# Altium integrated library Altium_SMD_Resister.IntLib: 490 symbols (part 4 of 8)
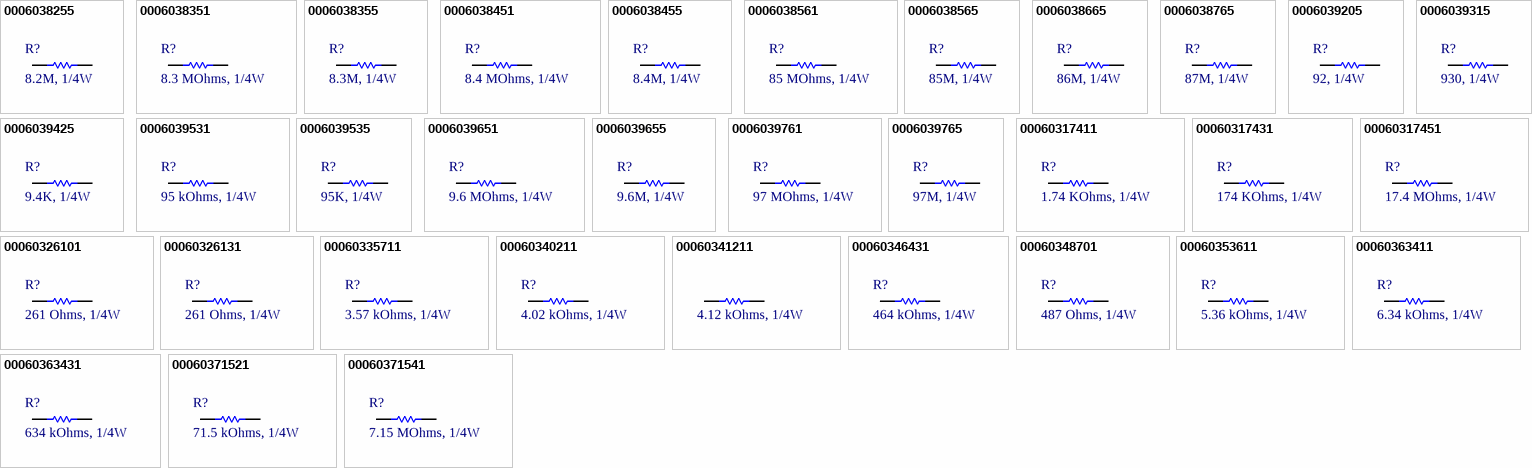
[diagram p15: symbols 0006038255 to 00060371541]

## 0006039531
designator R?, comment 95 kOhms, 1/4W
RES, 95 kOhms, size 0603, 1%; Resistance tolerance: +/-1%; Resistance: 95 k; Supply 1 Name: Mouser; Supply 2 Name: Digi-Key; Size: 0603; Mounting Technology: SMT; Rated Power: 1/4 W; ComponentLink1Description: Datasheet link; ComponentLink1URL: *; Supply 1 SN: *; Supply 1 URL: *; Supply 2 SN: *; Supply 2 URL: *; Supply 3 Name: *; Supply 3 SN: *
footprint resistor_0603
pins: 1, 2

## 0006039535
designator R?, comment 95K, 1/4W
RES, 95K Ohm, size 0603, 5%; Resistance tolerance: +/-5%; Size: 0603; Mounting Technology: SMT; Rated Power: 1/4 W; Datasheet: *; Resistance: 95K; ComponentLink1Description: Datasheet link; ComponentLink1URL: *; Supply 1 Name: *; Supply 1 SN: *; Supply 1 URL: *; Supply 2 Name: *; Supply 2 SN: *; Supply 2 URL: *; Supply 3 Name: *; Supply 3 SN: *; Supply 3 URL: *; Manufacture  Name: *; Manufacture  SN: *
footprint resistor_0603
pins: 1, 2

## 0006039651
designator R?, comment 9.6 MOhms, 1/4W
RES, 9.6 MOhms, size 0603, 1%; Resistance tolerance: +/-1%; Resistance: 9.6 M; Supply 1 Name: Mouser; Supply 2 Name: Digi-Key; Size: 0603; Mounting Technology: SMT; Rated Power: 1/4 W; ComponentLink1Description: Datasheet link; ComponentLink1URL: *; Supply 1 SN: *; Supply 1 URL: *; Supply 2 SN: *; Supply 2 URL: *; Supply 3 Name: *; Supply 3 SN: *
footprint resistor_0603
pins: 1, 2

## 0006039655
designator R?, comment 9.6M, 1/4W
RES, 9.6M Ohm, size 0603, 5%; Resistance tolerance: +/-5%; Size: 0603; Mounting Technology: SMT; Rated Power: 1/4 W; Datasheet: *; Resistance: 9.6M; ComponentLink1Description: Datasheet link; ComponentLink1URL: *; Supply 1 Name: *; Supply 1 SN: *; Supply 1 URL: *; Supply 2 Name: *; Supply 2 SN: *; Supply 2 URL: *; Supply 3 Name: *; Supply 3 SN: *; Supply 3 URL: *; Manufacture  Name: *; Manufacture  SN: *
footprint resistor_0603
pins: 1, 2

## 0006039761
designator R?, comment 97 MOhms, 1/4W
RES, 97 MOhms, size 0603, 1%; Resistance tolerance: +/-1%; Resistance: 97 M; Supply 1 Name: Mouser; Supply 2 Name: Digi-Key; Size: 0603; Mounting Technology: SMT; Rated Power: 1/4 W; ComponentLink1Description: Datasheet link; ComponentLink1URL: *; Supply 1 SN: *; Supply 1 URL: *; Supply 2 SN: *; Supply 2 URL: *; Supply 3 Name: *; Supply 3 SN: *
footprint resistor_0603
pins: 1, 2

## 0006039765
designator R?, comment 97M, 1/4W
RES, 97M Ohm, size 0603, 5%; Resistance tolerance: +/-5%; Size: 0603; Mounting Technology: SMT; Rated Power: 1/4 W; Datasheet: *; Resistance: 97M; ComponentLink1Description: Datasheet link; ComponentLink1URL: *; Supply 1 Name: *; Supply 1 SN: *; Supply 1 URL: *; Supply 2 Name: *; Supply 2 SN: *; Supply 2 URL: *; Supply 3 Name: *; Supply 3 SN: *; Supply 3 URL: *; Manufacture  Name: *; Manufacture  SN: *
footprint resistor_0603
pins: 1, 2

## 00060317411
designator R?, comment 1.74 KOhms, 1/4W
RES, 1.74 kOhms, size 0603, 1%; Resistance tolerance: +/-1%; Resistance: 1.74 k; Supply 1 Name: Mouser; Supply 1 SN: 652-CR0603FX-1741ELF; Supply 2 Name: Digi-Key; Supply 2 SN: 311-1.74KHRTR-ND; Size: 0603; Mounting Technology: SMT; Rated Power: 1/4 W; ComponentLink1Description: Datasheet link; ComponentLink1URL: *; Supply 1 URL: https://www.mouser.vn/ProductDetail/Bourns/CR0603-FX-1741ELF?qs=zx2075yZkZJRxafDX05PxQ%3D%3D; Supply 2 URL: https://www.digikey.com/en/products/detail/yageo/RC0603FR-071K74L/726872; Supply 3 Name: *; Supply 3 SN: *
footprint resistor_0603
pins: 1, 2

## 00060317431
designator R?, comment 174 KOhms, 1/4W
RES, 174 kOhms, size 0603, 1%; Resistance tolerance: +/-1%; Resistance: 174 k; Supply 1 Name: Mouser; Supply 1 SN: 652-CR0603FX-1743ELF; Supply 2 Name: Digi-Key; Supply 2 SN: 311-174KHRTR-ND; Size: 0603; Mounting Technology: SMT; Rated Power: 1/4 W; ComponentLink1Description: Datasheet link; ComponentLink1URL: *; Supply 1 URL: https://www.mouser.vn/ProductDetail/Bourns/CR0603-FX-1743ELF?qs=zx2075yZkZJGZPfH16YNVA%3D%3D; Supply 2 URL: https://www.digikey.com/en/products/detail/yageo/RC0603FR-07174KL/726985; Supply 3 Name: *; Supply 3 SN: *
footprint resistor_0603
pins: 1, 2

## 00060317451
designator R?, comment 17.4 MOhms, 1/4W
RES, 17.4 MOhms, size 0603, 1%; Resistance tolerance: +/-1%; Resistance: 174 M; Supply 1 Name: Mouser; Supply 1 SN: 303-0603WAF1745T5E; Supply 2 Name: Digi-Key; Size: 0603; Mounting Technology: SMT; Rated Power: 1/4 W; ComponentLink1Description: Datasheet link; ComponentLink1URL: *; Supply 1 URL: https://www.mouser.vn/ProductDetail/Royalohm/0603WAF1745T5E?qs=e8oIoAS2J1TZruGg9o9nsw%3D%3D; Supply 2 SN: *; Supply 2 URL: *; Supply 3 Name: *; Supply 3 SN: *
footprint resistor_0603
pins: 1, 2

## 00060326101
designator R?, comment 261 Ohms, 1/4W
RES, 261 Ohms, size 0603, 1%; Resistance tolerance: +/-1%; Resistance: 261; Supply 1 Name: Mouser; Supply 1 SN: 652-CR0603FX-2610ELF; Supply 2 Name: Digi-Key; Supply 2 SN: 311-261HRTR-ND; Size: 0603; Mounting Technology: SMT; Rated Power: 1/4 W; ComponentLink1Description: Datasheet link; ComponentLink1URL: *; Supply 1 URL: https://www.mouser.vn/ProductDetail/Bourns/CR0603-FX-2610ELF?qs=I4suiNu8FYAPozqcSssc3g%3D%3D; Supply 2 URL: https://www.digikey.com/en/products/detail/yageo/RC0603FR-07261RL/727095; Supply 3 Name: *; Supply 3 SN: *
footprint resistor_0603
pins: 1, 2

## 00060326131
designator R?, comment 261 Ohms, 1/4W
RES, 261 kOhms, size 0603, 1%; Resistance tolerance: +/-1%; Resistance: 261 k; Supply 1 Name: Mouser; Supply 1 SN: 71-CRCW0603-261K-E3; Supply 2 Name: Digi-Key; Supply 2 SN: 311-261KHRTR-ND; Size: 0603; Mounting Technology: SMT; Rated Power: 1/4 W; ComponentLink1Description: Datasheet link; ComponentLink1URL: *; Supply 1 URL: https://www.mouser.vn/ProductDetail/Vishay-Dale/CRCW0603261KFKEA?qs=ZY%2FA15UmqnC8j%252BzPQatghA%3D%3D; Supply 2 URL: https://www.digikey.com/en/products/detail/yageo/RC0603FR-07261KL/727096; Supply 3 Name: *; Supply 3 SN: *
footprint resistor_0603
pins: 1, 2

## 00060335711
designator R?, comment 3.57 kOhms, 1/4W
RES, 3.57 kOhms, size 0603, 1%; Resistance tolerance: +/-1%; Resistance: 3.57 k; Supply 1 Name: Mouser; Supply 1 SN: 755-SDR03EZPF3571; Supply 2 Name: Digi-Key; Supply 2 SN: 311-3.57KHRTR-ND; Size: 0603; Mounting Technology: SMT; Rated Power: 1/4 W; ComponentLink1Description: Datasheet link; ComponentLink1URL: *; Supply 1 URL: https://www.mouser.vn/ProductDetail/ROHM-Semiconductor/SDR03EZPF3571?qs=MyNHzdoqoQLQWlSf8qqG2w%3D%3D; Supply 2 URL: https://www.digikey.com/en/products/detail/yageo/RC0603FR-073K57L/727131; Supply 3 Name: *; Supply 3 SN: *
footprint resistor_0603
pins: 1, 2

## 00060340211
designator R?, comment 4.02 kOhms, 1/4W
RES, 4.02 kOhms, size 0603, 1%; Resistance tolerance: +/-1%; Resistance: 4.02 k; Supply 1 Name: Mouser; Supply 1 SN: 71-CRCW0603-4.02K-E3; Supply 2 Name: Digi-Key; Supply 2 SN: 311-4.02KHRTR-ND; Size: 0603; Mounting Technology: SMT; Rated Power: 1/4 W; ComponentLink1Description: Datasheet link; ComponentLink1URL: *; Supply 1 URL: https://www.mouser.vn/ProductDetail/Vishay-Dale/CRCW06034K02FKEA?qs=ePVmox3SMzYmoL%252BtsFsAuw%3D%3D; Supply 2 URL: https://www.digikey.com/en/products/detail/yageo/RC0603FR-074K02L/727203; Supply 3 Name: *; Supply 3 SN: *
footprint resistor_0603
pins: 1, 2

## 00060341211
designator ?, comment 4.12 kOhms, 1/4W
RES, 4.12 kOhms, size 0603, 1%; Resistance tolerance: +/-1%; Resistance: 4.12 k; Supply 1 Name: Mouser; Supply 1 SN: 71-CRCW0603-4.12K-E3; Supply 2 Name: Digi-Key; Supply 2 SN: 311-4.02KHRTR-ND; Size: 0603; Mounting Technology: SMT; Rated Power: 1/4 W; ComponentLink1Description: Datasheet link; ComponentLink1URL: *; Supply 1 URL: https://www.mouser.vn/ProductDetail/Vishay-Dale/CRCW06034K12FKEA?qs=7VR27ARAOdnkRSfILZFcCQ%3D%3D; Supply 2 URL: https://www.digikey.com/en/products/detail/yageo/RC0603FR-074K02L/727203; Supply 3 Name: *; Supply 3 SN: *
footprint resistor_0603
pins: 1, 2

## 00060346431
designator R?, comment 464 kOhms, 1/4W
RES, 464 kOhms, size 0603, 1%; Resistance tolerance: +/-1%; Resistance: 464 k; Supply 1 Name: Mouser; Supply 1 SN: 667-ERJ-PA3F4643V; Supply 2 Name: Digi-Key; Supply 2 SN: ERJ-PA3F4643V-ND - Tape & Reel (TR); Size: 0603; Mounting Technology: SMT; Rated Power: 1/4 W; Datasheet: https://www.mouser.vn/datasheet/2/315/AOA0000C331-1141874.pdf; ComponentLink1Description: Datasheet link; ComponentLink1URL: *; Supply 1 URL: https://www.mouser.vn/ProductDetail/Panasonic/ERJ-PA3F4643V?qs=BzJM0faLVqXNplNA4jO3ww%3D%3D; Supply 2 URL: https://www.digikey.com/en/products/detail/panasonic-electronic-components/ERJ-PA3F4643V/5038117?s=N4IgTCBcDaIGxwOwFoCiAlAUsgCgQQGYAxAFjhIIDUQBdAXyA; Supply 3 Name: *; Supply 3 SN: *
footprint resistor_0603
pins: 1, 2

## 00060348701
designator R?, comment 487 Ohms, 1/4W
RES, 487 Ohms, size 0603, 1%; Resistance tolerance: +/-1%; Resistance: 487; Supply 1 Name: Mouser; Supply 1 SN: 667-ERJ-PA3F4870V; Supply 2 Name: Digi-Key; Supply 2 SN: ERJ-PA3F4870V-ND - Tape & Reel (TR); Size: 0603; Mounting Technology: SMT; Rated Power: 1/4 W; Datasheet: https://www.mouser.vn/datasheet/2/315/AOA0000C331-1141874.pdf; ComponentLink1Description: Datasheet link; ComponentLink1URL: *; Supply 1 URL: https://www.mouser.vn/ProductDetail/Panasonic/ERJ-PA3F4870V?qs=BzJM0faLVqXoF%252BFTbHdjOQ%3D%3D; Supply 2 URL: https://www.digikey.com/en/products/detail/panasonic-electronic-components/ERJ-PA3F4870V/5037849?s=N4IgTCBcDaIGxwOwFoCiAlAUsgCgQQGYAxAFgA5EAGANRAF0BfIA; Supply 3 Name: *; Supply 3 SN: *
footprint resistor_0603
pins: 1, 2

## 00060353611
designator R?, comment 5.36 kOhms, 1/4W
RES, 5.36 kOhms, size 0603, 1%; Resistance tolerance: +/-1%; Resistance: 5.36 k; Supply 1 Name: Mouser; Supply 1 SN: 667-ERJ-PA3F5361V; Supply 2 Name: Digi-Key; Supply 2 SN: ERJ-PA3F5361V-ND - Tape & Reel (TR); Size: 0603; Mounting Technology: SMT; Rated Power: 1/4 W; Datasheet: https://www.mouser.vn/datasheet/2/315/AOA0000C331-1141874.pdf; ComponentLink1Description: Datasheet link; ComponentLink1URL: *; Supply 1 URL: https://www.mouser.vn/ProductDetail/Panasonic/ERJ-PA3F5361V?qs=BzJM0faLVqV9HycZG6PMVQ%3D%3D; Supply 2 URL: https://www.digikey.com/en/products/detail/panasonic-electronic-components/ERJ-PA3F5361V/5037943?s=N4IgTCBcDaIGxwOwFoCiAlAUsgCgQQGYAxAVgLgEYA1EAXQF8g; Supply 3 Name: *; Supply 3 SN: *
footprint resistor_0603
pins: 1, 2

## 00060363411
designator R?, comment 6.34 kOhms, 1/4W
RES, 6.34 kOhms, size 0603, 1%; Resistance tolerance: +/-1%; Resistance: 6.34 k; Supply 1 Name: Mouser; Supply 1 SN: 652-CR0805FX-6341ELF; Supply 2 Name: Digi-Key; Supply 2 SN: 311-6.34KHRTR-ND; Size: 0603; Mounting Technology: SMT; Rated Power: 1/4 W; ComponentLink1Description: Datasheet link; ComponentLink1URL: *; Supply 1 URL: https://www.mouser.vn/ProductDetail/Bourns/CR0805-FX-6341ELF?qs=LA9FZBosJlAK7SMOW8nAHg%3D%3D; Supply 2 URL: https://www.digikey.com/en/products/detail/yageo/RC0603FR-076K34L/727320; Supply 3 Name: *; Supply 3 SN: *
footprint resistor_0603
pins: 1, 2

## 00060363431
designator R?, comment 634 kOhms, 1/4W
RES, 634 kOhms, size 0603, 1%; Resistance tolerance: +/-1%; Resistance: 634 k; Supply 1 Name: Mouser; Supply 1 SN: 652-CR0805FX-6343ELF; Supply 2 Name: Digi-Key; Supply 2 SN: 311-634KHRTR-ND; Size: 0603; Mounting Technology: SMT; Rated Power: 1/4 W; ComponentLink1Description: Datasheet link; ComponentLink1URL: *; Supply 1 URL: https://www.mouser.vn/ProductDetail/Bourns/CR0805-FX-6343ELF?qs=LA9FZBosJlBAKVRC2OUkqw%3D%3D; Supply 2 URL: https://www.digikey.com/en/products/detail/yageo/RC0603FR-07634KL/727342; Supply 3 Name: *; Supply 3 SN: *
footprint resistor_0603
pins: 1, 2

## 00060371521
designator R?, comment 71.5 kOhms, 1/4W
RES, 71.5 kOhms, size 0603, 1%; Resistance tolerance: +/-1%; Resistance: 71.5 k; Supply 1 Name: Mouser; Supply 2 Name: Digi-Key; Supply 2 SN: 311-71.5KHRTR-ND; Size: 0603; Mounting Technology: SMT; Rated Power: 1/4 W; ComponentLink1Description: Datasheet link; ComponentLink1URL: *; Supply 1 SN: *; Supply 1 URL: *; Supply 2 URL: https://www.digikey.com/en/products/detail/yageo/RC0603FR-0771K5L/727370; Supply 3 Name: *; Supply 3 SN: *
footprint resistor_0603
pins: 1, 2

## 00060371541
designator R?, comment 7.15 MOhms, 1/4W
RES, 7.15 MOhms, size 0603, 1%; Resistance tolerance: +/-1%; Resistance: 7.15 M; Supply 1 Name: Mouser; Supply 1 SN: 603-RC0201FR-077M15L; Supply 2 Name: Digi-Key; Supply 2 SN: 541-7.15MHTR-ND; Size: 0603; Mounting Technology: SMT; Rated Power: 1/4 W; ComponentLink1Description: Datasheet link; ComponentLink1URL: *; Supply 1 URL: https://www.mouser.vn/ProductDetail/YAGEO/RC0201FR-077M15L?qs=lc2O%252BfHJPVagYgggyyCiyg%3D%3D; Supply 2 URL: https://www.digikey.com/en/products/detail/vishay-dale/CRCW06037M15FKEA/1175108; Supply 3 Name: *; Supply 3 SN: *
footprint resistor_0603
pins: 1, 2


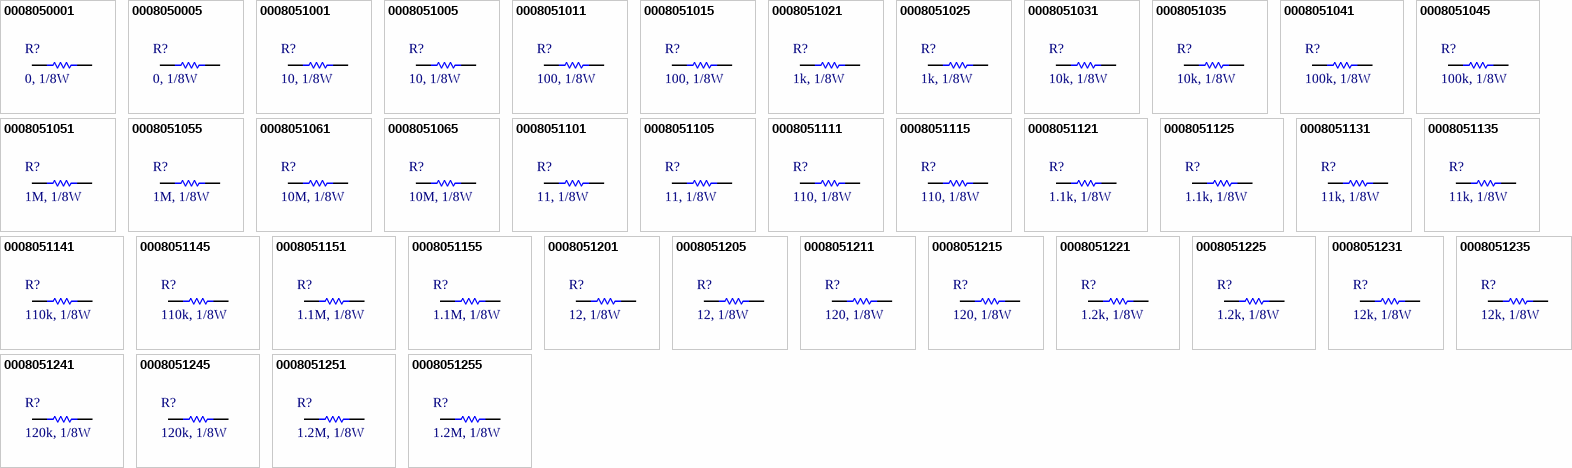
[diagram p6: symbols 0008050001 to 0008051255]

## 0008050001
designator R?, comment 0, 1/8W
RES, 0 Ohm, size 0805, 1%; Resistance tolerance: +/-1%; Resistance: 0; Size: 0805; Mounting Technology: SMT; Rated Power: 1/8 W; Datasheet: *; ComponentLink1Description: Datasheet link; ComponentLink1URL: *; Supply 1 Name: *; Supply 1 SN: *; Supply 1 URL: *; Supply 2 Name: *; Supply 2 SN: *; Supply 2 URL: *; Supply 3 Name: *; Supply 3 SN: *; Supply 3 URL: *; Manufacture  Name: *; Manufacture  SN: *
footprint RESISTOR_0805 (Chip Resistor, 2-Leads, Body 2,00x1,20mm, IPC Medium Density)
pins: 1, 2

## 0008050005
designator R?, comment 0, 1/8W
RES, 0 Ohm, size 0805, 5%; Resistance tolerance: +/-1%; Resistance: 0; Size: 0805; Mounting Technology: SMT; Rated Power: 1/8 W; Datasheet: *; ComponentLink1Description: Datasheet link; ComponentLink1URL: *; Supply 1 Name: *; Supply 1 SN: *; Supply 1 URL: *; Supply 2 Name: *; Supply 2 SN: *; Supply 2 URL: *; Supply 3 Name: *; Supply 3 SN: *; Supply 3 URL: *; Manufacture  Name: *; Manufacture  SN: *
footprint RESISTOR_0805 (Chip Resistor, 2-Leads, Body 2,00x1,20mm, IPC Medium Density)
pins: 1, 2

## 0008051001
designator R?, comment 10, 1/8W
RES, 10 Ohm, size 0805, 1%; Manufacture  Name: Vishay Dale Thin Film; Manufacture  SN: M55342H06B10D0RT5; Resistance tolerance: +/-1%; Resistance: 10; Supply 1 Name: DigiKey; Supply 1 SN: 764-M55342H06B10D0RT5TR-ND; Supply 2 Name: Mouser; Supply 2 SN: 71-CRCW080510R0FKEAH; Supply 3 Name: ThegioiIC; Size: 0805; Mounting Technology: SMT; Rated Power: 1/8 W; Datasheet: https://www.vishay.com/docs/60018/eh.pdf; ComponentLink1Description: Datasheet link; ComponentLink1URL: *; Supply 1 URL: https://www.digikey.com/en/products/detail/vishay-dale-thin-film/M55342H06B10D0RT5/3580812; Supply 2 URL: https://www.mouser.vn/ProductDetail/Vishay-Dale/CRCW080510R0FKEAHP?qs=sGAEpiMZZMtlubZbdhIBIB2QTI7Ai3Wq221SUXRDybo%3D; Supply 3 SN: *; Supply 3 URL: https://www.thegioiic.com/dien-tro-10-ohm-0805-1-
footprint RESISTOR_0805 (Chip Resistor, 2-Leads, Body 2,00x1,20mm, IPC Medium Density)
pins: 1, 2

## 0008051005
designator R?, comment 10, 1/8W
RES, 10 Ohm, size 0805, 5%; Manufacture  Name: TE Connectivity Passive Product; Manufacture  SN: CRGCQ0805J10R; Resistance tolerance: +/-5%; Resistance: 10; Supply 1 Name: DigiKey; Supply 1 SN: A130122TR-ND; Supply 2 Name: Mouser; Supply 2 SN: 71-CRCW080510R0JNEB; Supply 3 Name: ThegioiIC; Size: 0805; Mounting Technology: SMT; Rated Power: 1/8 W; Datasheet: https://www.te.com/usa-en/product-2176342-7.datasheet.pdf; ComponentLink1Description: Datasheet link; ComponentLink1URL: *; Supply 1 URL: https://www.digikey.com/en/products/detail/vishay-dale-thin-film/M55342H06B10D0RT5/3580812; Supply 2 URL: https://www.mouser.vn/ProductDetail/Vishay-Dale/CRCW080510R0JNEB?qs=LOX6nxTstiYdzgklIYN6GQ%3D%3D; Supply 3 SN: *; Supply 3 URL: https://www.thegioiic.com/dien-tro-10-ohm-0805-5-
footprint RESISTOR_0805 (Chip Resistor, 2-Leads, Body 2,00x1,20mm, IPC Medium Density)
pins: 1, 2

## 0008051011
designator R?, comment 100, 1/8W
RES, 100 Ohm, size 0805, 1%; Manufacture  Name: Vishay Dale Thin Film; Manufacture  SN: CRCW0805100RFKEB; Resistance tolerance: +/-1%; Resistance: 100; Supply 1 Name: DigiKey; Supply 1 SN: Y1624100R000F9R-ND; Supply 2 Name: Mouser; Supply 2 SN: 71-CRCW0805100RFKEB; Supply 3 Name: ThegioiIC; Size: 0805; Mounting Technology: SMT; Rated Power: 1/8 W; Datasheet: https://media.digikey.com/pdf/Data%20Sheets/Vishay%20Resistors/VSMP_Series_Z_Series_DS.pdf; ComponentLink1Description: Datasheet link; ComponentLink1URL: *; Supply 1 URL: https://www.digikey.com/en/products/detail/vpg-foil-resistors/Y1624100R000F9R/6026579; Supply 2 URL: https://www.mouser.vn/ProductDetail/Vishay-Dale/CRCW0805100RFKEB?qs=sGAEpiMZZMtlubZbdhIBIKpw3Cj3Rl3MFHVHXIgVmtw%3D; Supply 3 SN: *; Supply 3 URL: https://www.thegioiic.com/dien-tro-100-ohm-0805-1-
footprint RESISTOR_0805 (Chip Resistor, 2-Leads, Body 2,00x1,20mm, IPC Medium Density)
pins: 1, 2

## 0008051015
designator R?, comment 100, 1/8W
RES, 100 Ohm, size 0805, 5%; Manufacture  Name: Vishay Dale; Manufacture  SN: CRCW0805100RJNEAC; Resistance tolerance: +/-5%; Resistance: 100; Supply 1 Name: DigiKey; Supply 1 SN: 541-4166-2-ND; Supply 2 Name: Mouser; Supply 2 SN: 71-CRCW0805100RJNEA; Supply 3 Name: ThegioiIC; Size: 0805; Mounting Technology: SMT; Rated Power: 1/8 W; Datasheet: https://www.vishay.com/docs/28773/crcwce3.pdf; ComponentLink1Description: Datasheet link; ComponentLink1URL: *; Supply 1 URL: https://www.digikey.com/en/products/detail/vishay-dale/CRCW0805100RJNEAC/7928588; Supply 2 URL: https://www.mouser.vn/ProductDetail/Vishay-Dale/CRCW0805100RJNEA?qs=LOX6nxTstiYU5x3Np6dR5Q%3D%3D; Supply 3 SN: *; Supply 3 URL: https://www.thegioiic.com/dien-tro-100-ohm-0805-5
footprint RESISTOR_0805 (Chip Resistor, 2-Leads, Body 2,00x1,20mm, IPC Medium Density)
pins: 1, 2

## 0008051021
designator R?, comment 1k, 1/8W
RES, 1k Ohm, size 0805, 1%; Manufacture  Name: Vishay Dale; Manufacture  SN: M55342K06B1E00RS3; Resistance tolerance: +/-1%; Supply 1 Name: DigiKey; Supply 1 SN: 1135-1001-2-ND; Supply 3 Name: ThegioiIC; Size: 0805; Mounting Technology: SMT; Rated Power: 1/8 W; Datasheet: https://www.vishay.com/docs/31010/rcwpm.pdf; Resistance: 1k; ComponentLink1Description: Datasheet link; ComponentLink1URL: *; Supply 1 URL: https://www.digikey.com/en/products/detail/vishay-dale/M55342K06B1E00RS3/2941798; Supply 2 Name: *; Supply 2 SN: *; Supply 2 URL: *; Supply 3 SN: *; Supply 3 URL: https://www.thegioiic.com/dien-tro-1-kohm-0805-1
footprint RESISTOR_0805 (Chip Resistor, 2-Leads, Body 2,00x1,20mm, IPC Medium Density)
pins: 1, 2

## 0008051025
designator R?, comment 1k, 1/8W
RES, 1k Ohm, size 0805, 5%; Manufacture  Name: Vishay Dale; Manufacture  SN: CRCW08051K00JNEAC; Resistance tolerance: +/-5%; Supply 1 Name: DigiKey; Supply 1 SN: 541-4162-2-ND; Supply 2 Name: Mouser; Supply 2 SN: 71-CRCW08051K00JNEC; Supply 3 Name: ThegioiIC; Size: 0805; Mounting Technology: SMT; Rated Power: 1/8 W; Datasheet: https://www.vishay.com/docs/28773/crcwce3.pdf; Resistance: 1k; ComponentLink1Description: Datasheet link; ComponentLink1URL: *; Supply 1 URL: https://www.digikey.com/en/products/detail/vishay-dale/CRCW08051K00JNEAC/7928584; Supply 2 URL: https://www.mouser.vn/ProductDetail/Vishay-Dale/CRCW08051K00JNEC?qs=OW6ROCK%252BaiZqKFsNe9zjFw%3D%3D; Supply 3 SN: *; Supply 3 URL: https://www.thegioiic.com/dien-tro-1-kohm-0805-5-
footprint RESISTOR_0805 (Chip Resistor, 2-Leads, Body 2,00x1,20mm, IPC Medium Density)
pins: 1, 2

## 0008051031
designator R?, comment 10k, 1/8W
RES, 10k Ohm, size 0805, 1%; Resistance tolerance: +/-1%; Supply 3 Name: ThegioiIC; Size: 0805; Mounting Technology: SMT; Rated Power: 1/8 W; Datasheet: *; Resistance: 10k; ComponentLink1Description: Datasheet link; ComponentLink1URL: *; Supply 1 Name: *; Supply 1 SN: *; Supply 1 URL: *; Supply 2 Name: *; Supply 2 SN: *; Supply 2 URL: *; Supply 3 SN: *; Supply 3 URL: https://www.thegioiic.com/dien-tro-1-kohm-0805-1; Manufacture  Name: *; Manufacture  SN: *
footprint RESISTOR_0805 (Chip Resistor, 2-Leads, Body 2,00x1,20mm, IPC Medium Density)
pins: 1, 2

## 0008051035
designator R?, comment 10k, 1/8W
RES, 10k Ohm, size 0805, 5%; Manufacture  Name: Vishay Dale; Manufacture  SN: CRCW080510K0JNEAC; Resistance tolerance: +/-5%; Supply 1 Name: DigiKey; Supply 1 SN: 541-4163-2-ND; Supply 2 Name: Mouser; Supply 2 SN: 71-CRCW080510K0JNEB; Supply 3 Name: ThegioiIC; Size: 0805; Mounting Technology: SMT; Rated Power: 1/8 W; Datasheet: https://www.vishay.com/docs/28773/crcwce3.pdf; Resistance: 10k; ComponentLink1Description: Datasheet link; ComponentLink1URL: *; Supply 1 URL: https://www.digikey.com/en/products/detail/vishay-dale/CRCW080510K0JNEAC/7928585; Supply 2 URL: https://www.mouser.vn/ProductDetail/Vishay-Dale/CRCW080510K0JNEB?qs=LOX6nxTstiZ5fn9YUdHx5A%3D%3D; Supply 3 SN: *; Supply 3 URL: CRCW080510K0JNEAC
footprint RESISTOR_0805 (Chip Resistor, 2-Leads, Body 2,00x1,20mm, IPC Medium Density)
pins: 1, 2

## 0008051041
designator R?, comment 100k, 1/8W
RES, 100k Ohm, size 0805, 1%; Manufacture  Name: Vishay Dale; Manufacture  SN: M55342K06B100ERS3; Resistance tolerance: +/-1%; Supply 1 Name: DigiKey; Supply 1 SN: 1135-1002-2-ND; Supply 3 Name: ThegioiIC; Size: 0805; Mounting Technology: SMT; Rated Power: 1/8 W; Datasheet: *; Resistance: 100k; ComponentLink1Description: Datasheet link; ComponentLink1URL: *; Supply 1 URL: https://www.digikey.com/en/products/detail/vishay-dale/M55342K06B100ERS3/2941800; Supply 2 Name: *; Supply 2 SN: *; Supply 2 URL: *; Supply 3 SN: *; Supply 3 URL: M55342K06B100ERS3
footprint RESISTOR_0805 (Chip Resistor, 2-Leads, Body 2,00x1,20mm, IPC Medium Density)
pins: 1, 2

## 0008051045
designator R?, comment 100k, 1/8W
RES, 100k Ohm, size 0805, 5%; Manufacture  Name: Vishay Dale; Manufacture  SN: CRCW0805100KJNEAC; Resistance tolerance: +/-5%; Supply 1 Name: DigiKey; Supply 1 SN: 541-4164-2-ND; Supply 2 Name: Mouser; Supply 2 SN: 71-CRCW0805100KJNEC; Supply 3 Name: ThegioiIC; Size: 0805; Mounting Technology: SMT; Rated Power: 1/8 W; Datasheet: https://www.vishay.com/docs/28773/crcwce3.pdf; Resistance: 100k; ComponentLink1Description: Datasheet link; ComponentLink1URL: *; Supply 1 URL: https://www.digikey.com/en/products/detail/vishay-dale/CRCW0805100KJNEAC/7928586; Supply 2 URL: https://www.mouser.vn/ProductDetail/Vishay-Dale/CRCW0805100KJNEC?qs=waxnFHLl2hDcBYyAQZ2bVA%3D%3D; Supply 3 SN: *; Supply 3 URL: M55342K06B100ERS3
footprint RESISTOR_0805 (Chip Resistor, 2-Leads, Body 2,00x1,20mm, IPC Medium Density)
pins: 1, 2

## 0008051051
designator R?, comment 1M, 1/8W
RES, 1M Ohm, size 0805, 1%; Manufacture  Name: Vishay Dale; Manufacture  SN: M55342K06B1F00RS3; Resistance tolerance: +/-1%; Supply 1 Name: DigiKey; Supply 1 SN: 1135-1009-2-ND; Supply 3 Name: ThegioiIC; Size: 0805; Mounting Technology: SMT; Rated Power: 1/8 W; Datasheet: *; Resistance: 1M; ComponentLink1Description: Datasheet link; ComponentLink1URL: *; Supply 1 URL: https://www.digikey.com/en/products/detail/vishay-dale/M55342K06B1F00RS3/2941807?s=N4IgjCBcoMxaBjKAzAhgGwM4FMA0IB7KAbXDBggF18AHAFyhAGU6AnASwDsBzEAX3xgAbPBBJIaLHkIkQMAJwwATPJDUQ9Riw49%2B%2BACwjoYlBhz4ikUgA4A7MrW0GkZmy68BIJQAZrAVlFxSXMZK3AAAgBZAHkACwBbTEcNZxAAVU52OmjkSOxUTABXVmx%2BPj4gA; Supply 2 Name: *; Supply 2 SN: *; Supply 2 URL: *; Supply 3 SN: *; Supply 3 URL: https://www.thegioiic.com/dien-tro-1-mohm-0805-1
footprint RESISTOR_0805 (Chip Resistor, 2-Leads, Body 2,00x1,20mm, IPC Medium Density)
pins: 1, 2

## 0008051055
designator R?, comment 1M, 1/8W
RES, 1M Ohm, size 0805, 5%; Manufacture  Name: Vishay Dale; Manufacture  SN: CRCW08051M00JNEAC; Resistance tolerance: +/-5%; Supply 1 Name: DigiKey; Supply 1 SN: 541-CRCW08051M00JNEACTR-ND; Supply 2 Name: Mouser; Supply 2 SN: 71-CRCW0805J-1M-E3; Supply 3 Name: ThegioiIC; Size: 0805; Mounting Technology: SMT; Rated Power: 1/8 W; Datasheet: https://www.vishay.com/docs/28773/crcwce3.pdf; Resistance: 1M; ComponentLink1Description: Datasheet link; ComponentLink1URL: *; Supply 1 URL: https://www.digikey.com/en/products/detail/vishay-dale/CRCW08051M00JNEAC/7923683; Supply 2 URL: https://www.mouser.vn/ProductDetail/Vishay-Dale/CRCW08051M00JNEA?qs=1CkV0QOCgMqcQMPfmcgFvg%3D%3D; Supply 3 SN: *; Supply 3 URL: https://www.thegioiic.com/dien-tro-1-mohm-0805-5
footprint RESISTOR_0805 (Chip Resistor, 2-Leads, Body 2,00x1,20mm, IPC Medium Density)
pins: 1, 2

## 0008051061
designator R?, comment 10M, 1/8W
RES, 10M Ohm, size 0805, 1%; Manufacture  Name: Vishay Dale; Manufacture  SN: CRCW08051M00FKEAC; Resistance tolerance: +/-1%; Supply 1 Name: DigiKey; Supply 1 SN: 541-4135-2-ND; Supply 3 Name: ThegioiIC; Size: 0805; Mounting Technology: SMT; Rated Power: 1/8 W; Datasheet: https://www.vishay.com/docs/28773/crcwce3.pdf; Resistance: 10M; ComponentLink1Description: Datasheet link; ComponentLink1URL: *; Supply 1 URL: https://www.digikey.com/en/products/detail/vishay-dale/CRCW08051M00FKEAC/7928557; Supply 2 Name: *; Supply 2 SN: *; Supply 2 URL: *; Supply 3 SN: *; Supply 3 URL: https://www.digikey.com/en/products/detail/vishay-dale/CRCW08051M00FKEAC/7928557
footprint RESISTOR_0805 (Chip Resistor, 2-Leads, Body 2,00x1,20mm, IPC Medium Density)
pins: 1, 2

## 0008051065
designator R?, comment 10M, 1/8W
RES, 10M Ohm, size 0805, 5%; Manufacture  Name: Vishay Dale; Manufacture  SN: CRCW080510M0JNEA; Resistance tolerance: +/-5%; Supply 1 Name: DigiKey; Supply 1 SN: 541-10MATR-ND; Supply 2 Name: Mouser; Supply 2 SN: 71-RCV080510M0JNEA; Supply 3 Name: ThegioiIC; Size: 0805; Mounting Technology: SMT; Rated Power: 1/8 W; Datasheet: https://www.vishay.com/docs/20035/dcrcwe3.pdf; Resistance: 10M; ComponentLink1Description: Datasheet link; ComponentLink1URL: *; Supply 1 URL: https://www.digikey.com/en/products/detail/vishay-dale/CRCW080510M0JNEA/1175294; Supply 2 URL: https://www.mouser.vn/ProductDetail/Vishay-Draloric/RCV080510M0JNEA?qs=%252BZJHVReOaHr6BtmMLn%2FzAw%3D%3D; Supply 3 SN: *; Supply 3 URL: https://www.digikey.com/en/products/detail/vishay-dale/CRCW080510M0JNEA/1175294
footprint RESISTOR_0805 (Chip Resistor, 2-Leads, Body 2,00x1,20mm, IPC Medium Density)
pins: 1, 2

## 0008051101
designator R?, comment 11, 1/8W
RES, 11 Ohm, size 0805, 1%; Manufacture  Name: Vishay Dale; Manufacture  SN: CRCW080511R0FKTA; Resistance tolerance: +/-1%; Resistance: 11; Supply 1 Name: DigiKey; Supply 1 SN: 541-11.0CTR-ND; Supply 2 Name: Mouser; Supply 2 SN: 71-CRCW0805-11; Size: 0805; Mounting Technology: SMT; Rated Power: 1/8 W; Datasheet: https://www.vishay.com/docs/20035/dcrcwe3.pdf; ComponentLink1Description: Datasheet link; ComponentLink1URL: *; Supply 1 URL: https://www.digikey.com/en/products/detail/vishay-dale/CRCW080511R0FKEA/1175413; Supply 2 URL: https://www.mouser.vn/ProductDetail/Vishay-Dale/CRCW080511R0FKTA?qs=ZOFh%252BZEbFTDhCA9Hrh30Zw%3D%3D; Supply 3 Name: *; Supply 3 SN: *; Supply 3 URL: *
footprint RESISTOR_0805 (Chip Resistor, 2-Leads, Body 2,00x1,20mm, IPC Medium Density)
pins: 1, 2

## 0008051105
designator R?, comment 11, 1/8W
RES, 11 Ohm, size 0805, 5%; Manufacture  Name: Vishay Dale; Manufacture  SN: CRCW080511R0JNEAC; Resistance tolerance: +/-5%; Resistance: 11; Supply 1 Name: DigiKey; Supply 1 SN: CRCW080511R0JNEAC-ND; Supply 2 Name: Mouser; Supply 2 SN: 71-CRCW080511R0JNEA; Supply 3 Name: ThegioiIC; Size: 0805; Mounting Technology: SMT; Rated Power: 1/8 W; Datasheet: https://www.vishay.com/docs/28773/crcwce3.pdf; ComponentLink1Description: Datasheet link; ComponentLink1URL: *; Supply 1 URL: https://www.digikey.com/en/products/detail/vishay-dale/CRCW080511R0JNEAC/7923816; Supply 2 URL: https://www.mouser.vn/ProductDetail/Vishay-Dale/CRCW080511R0JNEA?qs=RG5hTW80OZI1ijzqZ4Fwzg%3D%3D; Supply 3 SN: *; Supply 3 URL: https://www.thegioiic.com/dien-tro-11-ohm-0805-5-
footprint RESISTOR_0805 (Chip Resistor, 2-Leads, Body 2,00x1,20mm, IPC Medium Density)
pins: 1, 2

## 0008051111
designator R?, comment 110, 1/8W
RES, 110 Ohm, size 0805, 1%; Manufacture  Name: Vishay Dale; Manufacture  SN: CRCW0805110RFKEA; Resistance tolerance: +/-1%; Resistance: 110; Supply 1 Name: DigiKey; Supply 1 SN: 541-110CTR-ND; Supply 2 Name: Mouser; Supply 2 SN: 71-CRCW0805110RFKEAC; Size: 0805; Mounting Technology: SMT; Rated Power: 1/8 W; Datasheet: https://www.vishay.com/docs/20035/dcrcwe3.pdf; ComponentLink1Description: Datasheet link; ComponentLink1URL: *; Supply 1 URL: https://www.digikey.com/en/products/detail/vishay-dale/CRCW0805110RFKEA/1175527; Supply 2 URL: https://www.mouser.vn/ProductDetail/Vishay-Dale/CRCW0805110RFKEAC?qs=E3Y5ESvWgWMNpf%252BYjZabPQ%3D%3D; Supply 3 Name: *; Supply 3 SN: *; Supply 3 URL: *
footprint RESISTOR_0805 (Chip Resistor, 2-Leads, Body 2,00x1,20mm, IPC Medium Density)
pins: 1, 2

## 0008051115
designator R?, comment 110, 1/8W
RES, 110 Ohm, size 0805, 5%; Manufacture  Name: Vishay Dale; Manufacture  SN: CRCW0805110RFKEA; Resistance tolerance: +/-5%; Resistance: 110; Supply 1 Name: DigiKey; Supply 1 SN: 541-110ATR-ND; Supply 2 Name: Mouser; Supply 2 SN: 71-CRCW0805110RJNEA; Supply 3 Name: ThegioiIC; Size: 0805; Mounting Technology: SMT; Rated Power: 1/8 W; Datasheet: https://www.vishay.com/docs/20035/dcrcwe3.pdf; ComponentLink1Description: Datasheet link; ComponentLink1URL: *; Supply 1 URL: https://www.digikey.com/en/products/detail/vishay-dale/CRCW0805110RJNEA/1175175; Supply 2 URL: https://www.mouser.vn/ProductDetail/Vishay-Dale/CRCW0805110RJNEA?qs=RG5hTW80OZJqHt0GVT%2FlyA%3D%3D; Supply 3 SN: *; Supply 3 URL: https://www.thegioiic.com/dien-tro-110-kohm-0805-5
footprint RESISTOR_0805 (Chip Resistor, 2-Leads, Body 2,00x1,20mm, IPC Medium Density)
pins: 1, 2

## 0008051121
designator R?, comment 1.1k, 1/8W
RES, 1.1k Ohm, size 0805, 1%; Manufacture  Name: Vishay Dale; Manufacture  SN: CRCW08051K10FKEAC; Resistance tolerance: +/-1%; Supply 1 Name: DigiKey; Supply 1 SN: 541-CRCW08051K10FKEACTR-ND; Supply 2 Name: Mouser; Supply 2 SN: 71-CRCW0805-1.1K; Size: 0805; Mounting Technology: SMT; Rated Power: 1/8 W; Datasheet: https://www.vishay.com/docs/28773/crcwce3.pdf; Resistance: 1.1k; ComponentLink1Description: Datasheet link; ComponentLink1URL: *; Supply 1 URL: https://www.digikey.com/en/products/detail/vishay-dale/CRCW08051K10FKEAC/7922296; Supply 2 URL: https://www.mouser.vn/ProductDetail/Vishay-Dale/CRCW08051K10FKTA?qs=kcr0bk%252BxakCLwlR%2FUomifg%3D%3D; Supply 3 Name: *; Supply 3 SN: *; Supply 3 URL: *
footprint RESISTOR_0805 (Chip Resistor, 2-Leads, Body 2,00x1,20mm, IPC Medium Density)
pins: 1, 2

## 0008051125
designator R?, comment 1.1k, 1/8W
RES, 1.1k Ohm, size 0805, 5%; Manufacture  Name: Vishay Dale; Manufacture  SN: CRCW08051K10JNEA; Resistance tolerance: +/-5%; Supply 1 Name: DigiKey; Supply 1 SN: 541-1.1KATR-ND; Supply 2 Name: Mouser; Supply 2 SN: 71-CRCW08051K10JNEA; Supply 3 Name: ThegioiIC; Size: 0805; Mounting Technology: SMT; Rated Power: 1/8 W; Datasheet: https://www.vishay.com/docs/28773/crcwce3.pdf; Resistance: 1.1k; ComponentLink1Description: Datasheet link; ComponentLink1URL: *; Supply 1 URL: https://www.digikey.com/en/products/detail/vishay-dale/CRCW08051K10JNEA/1175199; Supply 2 URL: https://www.mouser.vn/ProductDetail/Vishay-Dale/CRCW08051K10JNEA?qs=DZvKvnD5UYUcTcO5Q3S%252BBw%3D%3D; Supply 3 SN: *; Supply 3 URL: https://www.thegioiic.com/dien-tro-1-1-kohm-0805-5
footprint RESISTOR_0805 (Chip Resistor, 2-Leads, Body 2,00x1,20mm, IPC Medium Density)
pins: 1, 2

## 0008051131
designator R?, comment 11k, 1/8W
RES, 11k Ohm, size 0805, 1%; Manufacture  Name: Vishay Dale; Manufacture  SN: CRCW080511K0FKEA; Resistance tolerance: +/-1%; Supply 1 Name: DigiKey; Supply 1 SN: 541-11.0KCTR-ND; Supply 2 Name: Mouser; Supply 2 SN: 71-CRCW0805-11K-E3; Size: 0805; Mounting Technology: SMT; Rated Power: 1/8 W; Datasheet: *; Resistance: 11k; ComponentLink1Description: Datasheet link; ComponentLink1URL: *; Supply 1 URL: https://www.digikey.com/en/products/detail/vishay-dale/CRCW080511K0FKEA/1175755; Supply 2 URL: https://www.mouser.vn/ProductDetail/Vishay-Dale/CRCW080511K0FKEA?qs=RG5hTW80OZLEp%2FQ5LVKZyw%3D%3D; Supply 3 Name: *; Supply 3 SN: *; Supply 3 URL: *
footprint RESISTOR_0805 (Chip Resistor, 2-Leads, Body 2,00x1,20mm, IPC Medium Density)
pins: 1, 2

## 0008051135
designator R?, comment 11k, 1/8W
RES, 11k Ohm, size 0805, 5%; Manufacture  Name: Vishay Dale; Manufacture  SN: CRCW080511K0JNEA; Resistance tolerance: +/-5%; Supply 1 Name: DigiKey; Supply 1 SN: 541-11KATR-ND; Supply 2 Name: Mouser; Supply 2 SN: 71-CRCW0805J-11K-E3; Supply 3 Name: ThegioiIC; Size: 0805; Mounting Technology: SMT; Rated Power: 1/8 W; Datasheet: https://www.vishay.com/docs/20035/dcrcwe3.pdf; Resistance: 11k; ComponentLink1Description: Datasheet link; ComponentLink1URL: *; Supply 1 URL: https://www.digikey.com/en/products/detail/vishay-dale/CRCW080511K0JNEA/1175223; Supply 2 URL: https://www.mouser.vn/ProductDetail/Vishay-Dale/CRCW080511K0JNEA?qs=RG5hTW80OZLjmZsjWPwJOg%3D%3D; Supply 3 SN: *; Supply 3 URL: https://www.thegioiic.com/dien-tro-11-kohm-0805-5
footprint RESISTOR_0805 (Chip Resistor, 2-Leads, Body 2,00x1,20mm, IPC Medium Density)
pins: 1, 2

## 0008051141
designator R?, comment 110k, 1/8W
RES, 110k Ohm, size 0805, 1%; Manufacture  Name: Vishay Dale; Manufacture  SN: CRCW0805110KFKEAC; Resistance tolerance: +/-1%; Supply 1 Name: DigiKey; Supply 1 SN: 541-CRCW0805110KFKEACTR-ND; Supply 2 Name: Mouser; Supply 2 SN: 71-CRCW0805-110K; Supply 3 Name: ThegioiIC; Size: 0805; Mounting Technology: SMT; Rated Power: 1/8 W; Datasheet: https://www.vishay.com/docs/28773/crcwce3.pdf; Resistance: 110k; ComponentLink1Description: Datasheet link; ComponentLink1URL: *; Supply 1 URL: https://www.digikey.com/en/products/detail/vishay-dale/CRCW0805110KFKEAC/7922420; Supply 2 URL: https://www.mouser.vn/ProductDetail/Vishay-Dale/CRCW0805110KFKTA?qs=lAAKfumqcshWZsupBauqGw%3D%3D; Supply 3 SN: *; Supply 3 URL: https://www.thegioiic.com/dien-tro-110-kohm-0805-1-
footprint RESISTOR_0805 (Chip Resistor, 2-Leads, Body 2,00x1,20mm, IPC Medium Density)
pins: 1, 2

## 0008051145
designator R?, comment 110k, 1/8W
RES, 110k Ohm, size 0805, 5%; Manufacture  Name: Vishay Dale; Manufacture  SN: CRCW0805110KJNEAC; Resistance tolerance: +/-5%; Supply 1 Name: DigiKey; Supply 1 SN: CRCW0805110KJNEAC-ND; Supply 2 Name: Mouser; Supply 2 SN: 71-CRCW0805110KJNEA; Supply 3 Name: ThegioiIC; Size: 0805; Mounting Technology: SMT; Rated Power: 1/8 W; Datasheet: https://www.vishay.com/docs/28773/crcwce3.pdf; Resistance: 110k; ComponentLink1Description: Datasheet link; ComponentLink1URL: *; Supply 1 URL: https://www.digikey.com/en/products/detail/vishay-dale/CRCW0805110KJNEAC/7923811; Supply 2 URL: https://www.mouser.vn/ProductDetail/Vishay-Dale/CRCW0805110KJNEA?qs=LOX6nxTstiYWgn0ISge4KA%3D%3D; Supply 3 SN: *; Supply 3 URL: https://www.thegioiic.com/dien-tro-110-kohm-0805-5
footprint RESISTOR_0805 (Chip Resistor, 2-Leads, Body 2,00x1,20mm, IPC Medium Density)
pins: 1, 2

## 0008051151
designator R?, comment 1.1M, 1/8W
RES, 1.1M Ohm, size 0805, 1%; Manufacture  Name: Vishay Dale; Manufacture  SN: CRCW08051M10FKEA; Resistance tolerance: +/-1%; Supply 1 Name: DigiKey; Supply 1 SN: 541-1.10MCTR-ND; Supply 2 Name: Mouser; Supply 2 SN: 71-CRCW08051M10FKEA; Size: 0805; Mounting Technology: SMT; Rated Power: 1/8 W; Datasheet: https://www.vishay.com/docs/20035/dcrcwe3.pdf; Resistance: 1.1M; ComponentLink1Description: Datasheet link; ComponentLink1URL: *; Supply 1 URL: https://www.digikey.com/en/products/detail/vishay-dale/CRCW08051M10FKEA/1176020; Supply 2 URL: https://www.mouser.vn/ProductDetail/Vishay-Dale/CRCW08051M10FKEA?qs=1CkV0QOCgMonU8HVfJOxww%3D%3D; Supply 3 Name: *; Supply 3 SN: *; Supply 3 URL: *
footprint RESISTOR_0805 (Chip Resistor, 2-Leads, Body 2,00x1,20mm, IPC Medium Density)
pins: 1, 2

## 0008051155
designator R?, comment 1.1M, 1/8W
RES, 1.1M Ohm, size 0805, 5%; Manufacture  Name: Vishay Dale; Manufacture  SN: CRCW08051M10JNEAC; Resistance tolerance: +/-5%; Supply 1 Name: DigiKey; Supply 1 SN: CRCW08051M10JNEAC-ND; Supply 2 Name: Mouser; Supply 2 SN: 71-CRCW0805J-1.1M; Supply 3 Name: ThegioiIC; Size: 0805; Mounting Technology: SMT; Rated Power: 1/8 W; Datasheet: https://www.vishay.com/docs/28773/crcwce3.pdf; Resistance: 1.1M; ComponentLink1Description: Datasheet link; ComponentLink1URL: *; Supply 1 URL: https://www.digikey.com/en/products/detail/vishay-dale/CRCW08051M10JNEAC/7923848; Supply 2 URL: https://www.mouser.vn/ProductDetail/Vishay-Dale/CRCW08051M10JNTA?qs=5w%2FwobBlTbKF7Ocr2yYivA%3D%3D; Supply 3 SN: *; Supply 3 URL: https://www.thegioiic.com/dien-tro-1-1-mohm-0805-5
footprint RESISTOR_0805 (Chip Resistor, 2-Leads, Body 2,00x1,20mm, IPC Medium Density)
pins: 1, 2

## 0008051201
designator R?, comment 12, 1/8W
RES, 12 Ohm, size 0805, 1%; Manufacture  Name: Vishay Dale; Manufacture  SN: CRCW080512R0FKEA; Resistance tolerance: +/-1%; Resistance: 12; Supply 1 Name: DigiKey; Supply 1 SN: 541-12.0CTR-ND; Supply 2 Name: Mouser; Supply 2 SN: 71-CRCW080512R0FKEA; Supply 3 Name: ThegioiIC; Size: 0805; Mounting Technology: SMT; Rated Power: 1/8 W; Datasheet: *; ComponentLink1Description: Datasheet link; ComponentLink1URL: *; Supply 1 URL: https://www.digikey.com/en/products/detail/vishay-dale/CRCW080512R0FKEA/1175417; Supply 2 URL: https://www.mouser.vn/ProductDetail/Vishay-Dale/CRCW080512R0FKEA?qs=0y7Riw94L4im3ZmXAo%252BFfQ%3D%3D; Supply 3 URL: https://www.thegioiic.com/dien-tro-12-ohm-0805-1-
footprint RESISTOR_0805 (Chip Resistor, 2-Leads, Body 2,00x1,20mm, IPC Medium Density)
pins: 1, 2

## 0008051205
designator R?, comment 12, 1/8W
RES, 12 Ohm, size 0805, 5%; Manufacture  Name: Vishay Dale; Manufacture  SN: CRCW080512R0JNEA; Resistance tolerance: +/-5%; Resistance: 12; Supply 1 Name: DigiKey; Supply 1 SN: 541-12ATR-ND; Supply 2 Name: Mouser; Supply 2 SN: 71-CRCW080512R0JNEA; Supply 3 Name: ThegioiIC; Size: 0805; Mounting Technology: SMT; Rated Power: 1/8 W; Datasheet: https://www.vishay.com/docs/20035/dcrcwe3.pdf; ComponentLink1Description: Datasheet link; ComponentLink1URL: *; Supply 1 URL: https://www.digikey.com/en/products/detail/vishay-dale/CRCW080512R0JNEA/1175152; Supply 2 URL: https://www.mouser.vn/ProductDetail/Vishay-Dale/CRCW080512R0JNEA?qs=0y7Riw94L4hpzrfVlTNTMg%3D%3D; Supply 3 URL: https://www.thegioiic.com/dien-tro-1-1-mohm-0805-5
footprint RESISTOR_0805 (Chip Resistor, 2-Leads, Body 2,00x1,20mm, IPC Medium Density)
pins: 1, 2

## 0008051211
designator R?, comment 120, 1/8W
RES, 120 Ohm, size 0805, 1%; Manufacture  Name: Vishay Dale; Manufacture  SN: CRCW0805120RFKEAC; Resistance tolerance: +/-1%; Resistance: 120; Supply 1 Name: DigiKey; Supply 1 SN: 541-CRCW0805120RFKEACTR-ND; Supply 2 Name: Mouser; Supply 2 SN: 71-CRCW0805120RFKEAC; Size: 0805; Mounting Technology: SMT; Rated Power: 1/8 W; Datasheet: https://www.vishay.com/docs/28773/crcwce3.pdf; ComponentLink1Description: Datasheet link; ComponentLink1URL: *; Supply 1 URL: https://www.digikey.com/en/products/detail/vishay-dale/CRCW0805120RFKEAC/7922316; Supply 2 URL: https://www.mouser.vn/ProductDetail/Vishay-Dale/CRCW0805120RFKEAC?qs=E3Y5ESvWgWNkSFxCW%252BJprQ%3D%3D; Supply 3 Name: *; Supply 3 SN: *; Supply 3 URL: *
footprint RESISTOR_0805 (Chip Resistor, 2-Leads, Body 2,00x1,20mm, IPC Medium Density)
pins: 1, 2

## 0008051215
designator R?, comment 120, 1/8W
RES, 120 Ohm, size 0805, 5%; Manufacture  Name: Vishay Dale; Manufacture  SN: CRCW0805120RJNEA; Resistance tolerance: +/-5%; Resistance: 120; Supply 1 Name: DigiKey; Supply 1 SN: 541-120ATR-ND; Supply 2 Name: Mouser; Supply 2 SN: 71-CRCW0805120RJNEA; Supply 3 Name: ThegioiIC; Size: 0805; Mounting Technology: SMT; Rated Power: 1/8 W; Datasheet: https://www.vishay.com/docs/20035/dcrcwe3.pdf; ComponentLink1Description: Datasheet link; ComponentLink1URL: *; Supply 1 URL: https://www.digikey.com/en/products/detail/vishay-dale/CRCW0805120RJNEA/1175176; Supply 2 URL: https://www.mouser.vn/ProductDetail/Vishay-Dale/CRCW0805120RJNEA?qs=RG5hTW80OZL%252BSuUGN6l0YA%3D%3D; Supply 3 SN: *; Supply 3 URL: https://www.thegioiic.com/dien-tro-120-ohm-0805-5-
footprint RESISTOR_0805 (Chip Resistor, 2-Leads, Body 2,00x1,20mm, IPC Medium Density)
pins: 1, 2

## 0008051221
designator R?, comment 1.2k, 1/8W
RES, 1.2k Ohm, size 0805, 1%; Manufacture  Name: Vishay Dale; Manufacture  SN: CRCW08051K20FKEAC; Resistance tolerance: +/-1%; Supply 1 Name: DigiKey; Supply 1 SN: 541-CRCW08051K20FKEACTR-ND; Supply 2 Name: Mouser; Supply 2 SN: 71-CRCW0805-1.2K; Supply 3 Name: ThegioiIC; Size: 0805; Mounting Technology: SMT; Rated Power: 1/8 W; Datasheet: https://www.vishay.com/docs/28773/crcwce3.pdf; Resistance: 1.2k; ComponentLink1Description: Datasheet link; ComponentLink1URL: *; Supply 1 URL: https://www.digikey.com/en/products/detail/vishay-dale/CRCW08051K20FKEAC/7922327; Supply 2 URL: https://www.mouser.vn/ProductDetail/Vishay-Dale/CRCW08051K20FKTA?qs=xLmuQgtoMPPFT9OsB3td2Q%3D%3D; Supply 3 SN: *; Supply 3 URL: https://www.thegioiic.com/dien-tro-1-2-kohm-0805-1-
footprint RESISTOR_0805 (Chip Resistor, 2-Leads, Body 2,00x1,20mm, IPC Medium Density)
pins: 1, 2

## 0008051225
designator R?, comment 1.2k, 1/8W
RES, 1.2k Ohm, size 0805, 5%; Manufacture  Name: Vishay Dale; Manufacture  SN: CRCW08051K20JNEA; Resistance tolerance: +/-5%; Supply 1 Name: DigiKey; Supply 1 SN: 541-1.2KATR-ND; Supply 2 Name: Mouser; Supply 2 SN: 71-CRCW0805J-1.2K; Supply 3 Name: ThegioiIC; Size: 0805; Mounting Technology: SMT; Rated Power: 1/8 W; Datasheet: https://www.vishay.com/docs/20035/dcrcwe3.pdf; Resistance: 1.2k; ComponentLink1Description: Datasheet link; ComponentLink1URL: *; Supply 1 URL: https://www.digikey.com/en/products/detail/vishay-dale/CRCW08051K20JNEA/1175200; Supply 2 URL: https://www.mouser.vn/ProductDetail/Vishay-Dale/CRCW08051K20JNTA?qs=ihJ2iVknB9v1dN2NZA89OA%3D%3D; Supply 3 SN: *; Supply 3 URL: https://www.thegioiic.com/dien-tro-1-2-kohm-0805-5
footprint RESISTOR_0805 (Chip Resistor, 2-Leads, Body 2,00x1,20mm, IPC Medium Density)
pins: 1, 2

## 0008051231
designator R?, comment 12k, 1/8W
RES, 12k Ohm, size 0805, 1%; Manufacture  Name: Vishay Dale; Manufacture  SN: CRCW080512K0FKEAC; Resistance tolerance: +/-1%; Supply 1 Name: DigiKey; Supply 1 SN: 541-CRCW080512K0FKEACTR-ND; Supply 2 Name: Mouser; Supply 2 SN: 71-CRCW080512K0FKEA; Supply 3 Name: ThegioiIC; Size: 0805; Mounting Technology: SMT; Rated Power: 1/8 W; Datasheet: https://www.vishay.com/docs/28773/crcwce3.pdf; Resistance: 12k; ComponentLink1Description: Datasheet link; ComponentLink1URL: *; Supply 1 URL: https://www.digikey.com/en/products/detail/vishay-dale/CRCW080512K0FKEAC/7922348; Supply 2 URL: https://www.mouser.vn/ProductDetail/Vishay-Dale/CRCW080512K0FKEA?qs=0y7Riw94L4gQIm4gt5oa2A%3D%3D; Supply 3 SN: *; Supply 3 URL: https://www.thegioiic.com/dien-tro-12-kohm-0805-1
footprint RESISTOR_0805 (Chip Resistor, 2-Leads, Body 2,00x1,20mm, IPC Medium Density)
pins: 1, 2

## 0008051235
designator R?, comment 12k, 1/8W
RES, 12k Ohm, size 0805, 5%; Manufacture  Name: Vishay Dale; Manufacture  SN: CRCW080512K0FKEAC; Resistance tolerance: +/-5%; Supply 1 Name: DigiKey; Supply 1 SN: 541-12KATR-ND; Supply 2 Name: Mouser; Supply 2 SN: 71-CRCW080512K0JNEA; Supply 3 Name: ThegioiIC; Size: 0805; Mounting Technology: SMT; Rated Power: 1/8 W; Datasheet: https://www.vishay.com/docs/20035/dcrcwe3.pdf; Resistance: 12k; ComponentLink1Description: Datasheet link; ComponentLink1URL: *; Supply 1 URL: https://www.digikey.com/en/products/detail/vishay-dale/CRCW080512K0JNEA/1175224; Supply 2 URL: https://www.mouser.vn/ProductDetail/Vishay-Dale/CRCW080512K0JNEA?qs=0y7Riw94L4j20XDG43nIlg%3D%3D; Supply 3 SN: *; Supply 3 URL: https://www.vishay.com/docs/20035/dcrcwe3.pdf
footprint RESISTOR_0805 (Chip Resistor, 2-Leads, Body 2,00x1,20mm, IPC Medium Density)
pins: 1, 2

## 0008051241
designator R?, comment 120k, 1/8W
RES, 120k Ohm, size 0805, 1%; Manufacture  Name: Vishay Dale; Manufacture  SN: CRCW0805120KFKEB; Resistance tolerance: +/-1%; Supply 1 Name: DigiKey; Supply 1 SN: 541-CRCW0805120KFKEBTR-ND; Supply 2 Name: Mouser; Supply 2 SN: 71-CRCW0805120KFKEAC; Size: 0805; Mounting Technology: SMT; Rated Power: 1/8 W; Datasheet: https://www.vishay.com/docs/20035/dcrcwe3.pdf; Resistance: 120k; ComponentLink1Description: Datasheet link; ComponentLink1URL: *; Supply 1 URL: https://www.digikey.com/en/products/detail/vishay-dale/CRCW0805120KFKEB/5073706; Supply 2 URL: https://www.mouser.vn/ProductDetail/Vishay-Dale/CRCW0805120KFKEAC?qs=E3Y5ESvWgWPz1L64z3fNYQ%3D%3D; Supply 3 Name: *; Supply 3 SN: *; Supply 3 URL: *
footprint RESISTOR_0805 (Chip Resistor, 2-Leads, Body 2,00x1,20mm, IPC Medium Density)
pins: 1, 2

## 0008051245
designator R?, comment 120k, 1/8W
RES, 120k Ohm, size 0805, 5%; Manufacture  Name: Vishay Dale; Manufacture  SN: CRCW0805120KJNEA; Resistance tolerance: +/-5%; Supply 1 Name: DigiKey; Supply 1 SN: 541-120KATR-ND; Supply 2 Name: Mouser; Supply 2 SN: 71-CRCW0805120KJNEA; Supply 3 Name: ThegioiIC; Size: 0805; Mounting Technology: SMT; Rated Power: 1/8 W; Datasheet: https://www.vishay.com/docs/20035/dcrcwe3.pdf; Resistance: 120k; ComponentLink1Description: Datasheet link; ComponentLink1URL: *; Supply 1 URL: https://www.digikey.com/en/products/detail/vishay-dale/CRCW0805120KJNEA/1175248; Supply 2 URL: https://www.mouser.vn/ProductDetail/Vishay-Dale/CRCW0805120KJNEA?qs=RG5hTW80OZISYDThER7IDg%3D%3D; Supply 3 SN: *; Supply 3 URL: https://www.thegioiic.com/dien-tro-120-kohm-0805-5
footprint RESISTOR_0805 (Chip Resistor, 2-Leads, Body 2,00x1,20mm, IPC Medium Density)
pins: 1, 2

## 0008051251
designator R?, comment 1.2M, 1/8W
RES, 1.2M Ohm, size 0805, 1%; Manufacture  Name: Vishay Dale; Manufacture  SN: CRCW08051M20FKEA; Resistance tolerance: +/-1%; Supply 1 Name: DigiKey; Supply 1 SN: 541-1.20MCTR-ND; Supply 2 Name: Mouser; Supply 2 SN: 71-CRCW08051M20FKEA; Size: 0805; Mounting Technology: SMT; Rated Power: 1/8 W; Datasheet: https://www.vishay.com/docs/20035/dcrcwe3.pdf; Resistance: 1.2M; ComponentLink1Description: Datasheet link; ComponentLink1URL: *; Supply 1 URL: https://www.digikey.com/en/products/detail/vishay-dale/CRCW08051M20FKEA/1176024; Supply 2 URL: https://www.mouser.vn/ProductDetail/Vishay-Dale/CRCW08051M20FKEA?qs=uQdQW2oKfUVC5dKjGtshLg%3D%3D; Supply 3 Name: *; Supply 3 SN: *; Supply 3 URL: *
footprint RESISTOR_0805 (Chip Resistor, 2-Leads, Body 2,00x1,20mm, IPC Medium Density)
pins: 1, 2

## 0008051255
designator R?, comment 1.2M, 1/8W
RES, 1.2M Ohm, size 0805, 5%; Manufacture  Name: Vishay Dale; Manufacture  SN: CRCW08051M20JNEA; Resistance tolerance: +/-5%; Supply 1 Name: DigiKey; Supply 1 SN: 541-1.2MATR-ND; Supply 2 Name: Mouser; Supply 2 SN: 71-CRCW08051M20JNEA; Supply 3 Name: ThegioiIC; Size: 0805; Mounting Technology: SMT; Rated Power: 1/8 W; Datasheet: https://www.vishay.com/docs/20035/dcrcwe3.pdf; Resistance: 1.2M; ComponentLink1Description: Datasheet link; ComponentLink1URL: *; Supply 1 URL: https://www.digikey.com/en/products/detail/vishay-dale/CRCW08051M20JNEA/1175272; Supply 2 URL: https://www.mouser.vn/ProductDetail/Vishay-Dale/CRCW08051M20JNEA?qs=1CkV0QOCgMrKOwOc4yedvw%3D%3D; Supply 3 SN: *; Supply 3 URL: https://www.thegioiic.com/dien-tro-1-2-mohm-0805-5
footprint RESISTOR_0805 (Chip Resistor, 2-Leads, Body 2,00x1,20mm, IPC Medium Density)
pins: 1, 2

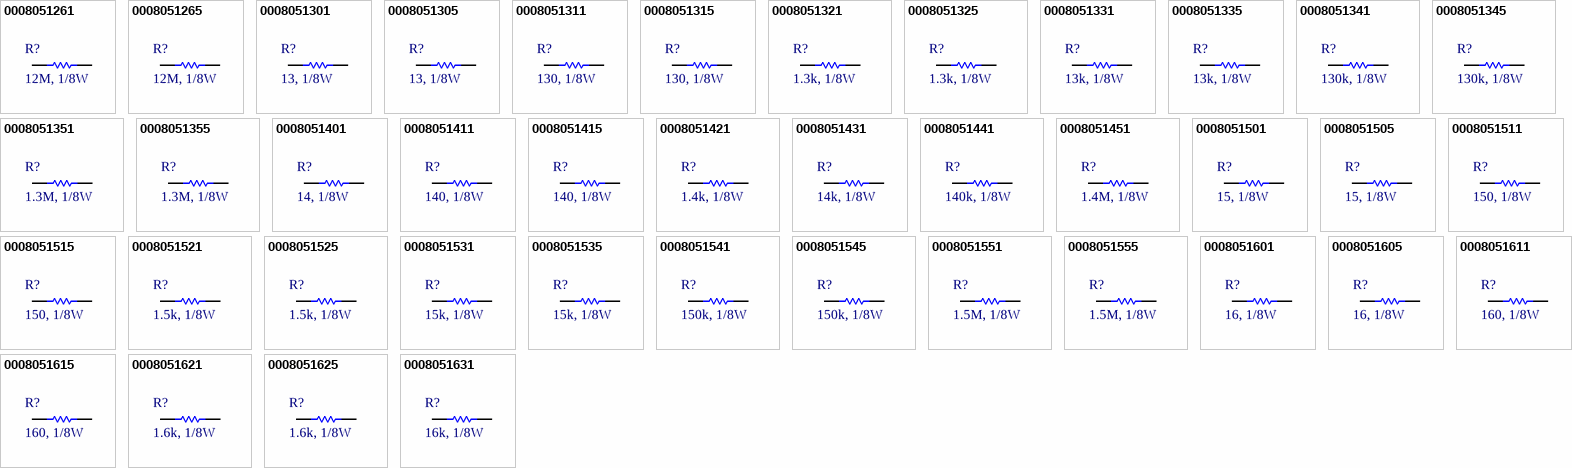
[diagram p7: symbols 0008051261 to 0008051631]

## 0008051261
designator R?, comment 12M, 1/8W
RES, 12M Ohm, size 0805, 1%; Resistance tolerance: +/-1%; Resistance: 12.4M; Supply 1 Name: DigiKey; Supply 1 SN: 2679-CR0805-8W-1245FTTR-ND; Size: 0805; Mounting Technology: SMT; Rated Power: 1/8 W; Datasheet: https://page.venkel.com/hubfs/Resources/Datasheets/CR-Series.pdf; ComponentLink1Description: Datasheet link; ComponentLink1URL: *; Supply 1 URL: https://www.digikey.com/en/products/detail/venkel/CR0805-8W-1245FT/12332325?s=N4IgjCBcoExaBjKAzAhgGwM4FMA0IB7KAbXAAYAOAdgE4QBdfABwBcoQBlFgJwEsA7AOYgAvvgDM8EEkhoseQiXBhxERiFbsufIaPxgYNCNGkoMOfEUilxNcTAoNmbSJx4DhYkDEoBWKTJyForW4DAAdAAsAAQAsgDyABYAtphOGi4gAKr8vCzxyLHYqJgArtzYeiAAtMaIZvKWSr6REPgwAGy0IPi%2BHQwig0A; Supply 2 Name: *; Supply 2 SN: *; Supply 2 URL: *; Supply 3 Name: *; Supply 3 SN: *; Supply 3 URL: *; Manufacture  Name: *; Manufacture  SN: *
footprint RESISTOR_0805 (Chip Resistor, 2-Leads, Body 2,00x1,20mm, IPC Medium Density)
pins: 1, 2

## 0008051265
designator R?, comment 12M, 1/8W
RES, 12M Ohm, size 0805, 5%; Resistance tolerance: +/-5%; Supply 1 Name: DigiKey; Supply 1 SN: CRCW080512M0JPEAHR-ND; Size: 0805; Mounting Technology: SMT; Rated Power: 1/8 W; Datasheet: https://page.venkel.com/hubfs/Resources/Datasheets/CR-Series.pdf; Resistance: 12M; ComponentLink1Description: Datasheet link; ComponentLink1URL: *; Supply 1 URL: https://www.digikey.com/en/products/detail/vishay-dale/CRCW080512M0JPEAHR/5073763?s=N4IgjCBcoExaBjKAzAhgGwM4FMA0IB7KAbXAAYAOAdgE4QBdfABwBcoQBlFgJwEsA7AOYgAvvgDM8EEkhoseQiRAwArGUmMQrdlz5DR%2BMDBoRo0lBhz4ikUuJriYFBszaROPAcLHLKKqTJyVoq24DAABACyAPIAFgC2mC5abiAAqvy8LNHIkdiomACu3NgGIAC0pogW8tZKKgAsEPQirUA; Supply 2 Name: *; Supply 2 SN: *; Supply 2 URL: *; Supply 3 Name: *; Supply 3 SN: *; Supply 3 URL: *; Manufacture  Name: *; Manufacture  SN: *
footprint RESISTOR_0805 (Chip Resistor, 2-Leads, Body 2,00x1,20mm, IPC Medium Density)
pins: 1, 2

## 0008051301
designator R?, comment 13, 1/8W
RES, 13 Ohm, size 0805, 1%; Manufacture  Name: Vishay Dale; Manufacture  SN: CRCW080513R0FKEA; Resistance tolerance: +/-1%; Resistance: 13; Supply 1 Name: DigiKey; Supply 1 SN: 541-13.0CTR-ND; Supply 2 Name: Mouser; Supply 2 SN: 71-CRCW0805-13; Supply 3 Name: ThegioiIC; Size: 0805; Mounting Technology: SMT; Rated Power: 1/8 W; Datasheet: https://www.vishay.com/docs/20035/dcrcwe3.pdf; ComponentLink1Description: Datasheet link; ComponentLink1URL: *; Supply 1 URL: https://www.digikey.com/en/products/detail/vishay-dale/CRCW080513R0FKEA/1175421; Supply 2 URL: https://www.mouser.vn/ProductDetail/Vishay-Dale/CRCW080513R0FKTA?qs=ZOFh%252BZEbFTD7SfeHjm78bA%3D%3D; Supply 3 SN: *; Supply 3 URL: https://www.mouser.vn/ProductDetail/Vishay-Dale/CRCW080513R0FKTA?qs=ZOFh%252BZEbFTD7SfeHjm78bA%3D%3D
footprint RESISTOR_0805 (Chip Resistor, 2-Leads, Body 2,00x1,20mm, IPC Medium Density)
pins: 1, 2